# Altium footprint library 4.5x4_wired.PcbLib: 1 footprints
Each footprint in its own frame and in the unit in brackets; x right, y up, seen from the top. Pads: shape width x height; smd on the part's side, far side on the other; paste and mask are expansions set on the pad; w line width, h text height; cw(c..) or ccw(c..) is an arc to the next point about the centre after c.
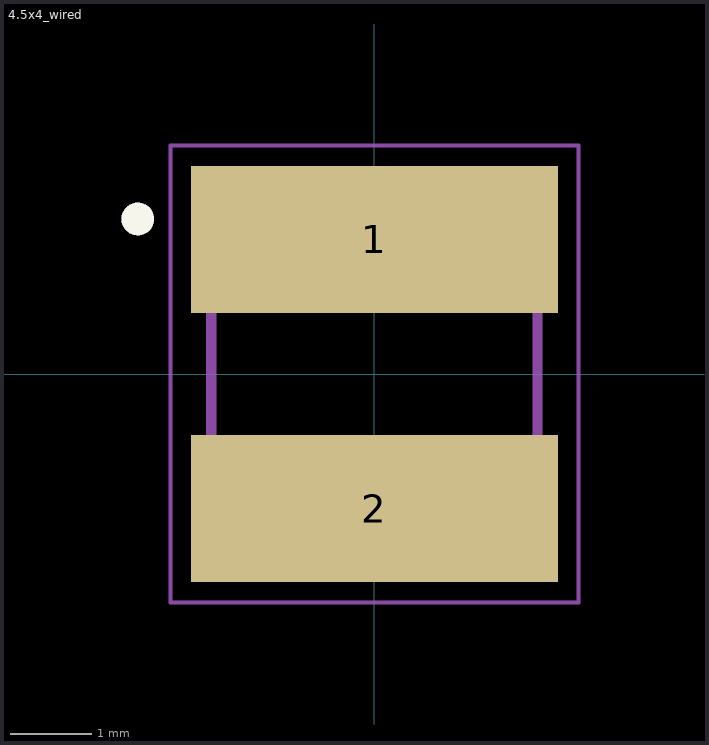
[diagram p0: the footprint, top view; thin cyan lines are the x and y axes]

## 4.5x4_wired [mm]
pads (2):
  rect 4.5x1.8 smd: 1(0,1.65) 2(0,-1.65)
Top Overlay:
  circle w0.2: c-2.9,1.9 r0.1
Mechanical 13:
  circle w0.2: c-2.9,1.9 r0.1
  lines w0.127: -2,-0.75 ccw(c0,-0.361) 2,-0.75 2,0.75 ccw(c0,0.361) -2,0.75 -2,-0.75
Mechanical 15:
  lines w0.05: -2.5,-2.8 2.5,-2.8 2.5,2.8 -2.5,2.8 -2.5,-2.8
3D body "sdr0403-120ml.stp": height 3.2, standoff 0, extent -2.25,-2.25 2.25,2.25